# Altium schematic symbol library VDRI30B24_N_IRM-15-24.SchLib: 1 symbol
Pins are listed as number, name and electrical type; pins without a type are passive.

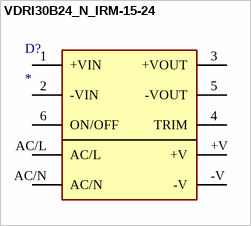
[diagram p0: symbol VDRI30B24_N_IRM-15-24]

## VDRI30B24_N_IRM-15-24
designator D?
30 Watt DC/DC converter, regulated, 1500VDC isolation, encapsulated, metal enclosure. 15 Watt AC/DC converter.; MF: Voltbricks; MP: VDRI30B24; Value: *
footprint VDRI30B24_N_IRM-15-24 (Footprint not found)
pins: 1 +VIN, 2 -VIN, 3 +VOUT, 4 TRIM, 5 -VOUT, 6 ON/OFF, +V, -V, AC/L, AC/N